# Altium schematic symbol library TPS65981.Schlib: 1 symbol
Pins are listed as number, name and electrical type; pins without a type are passive.

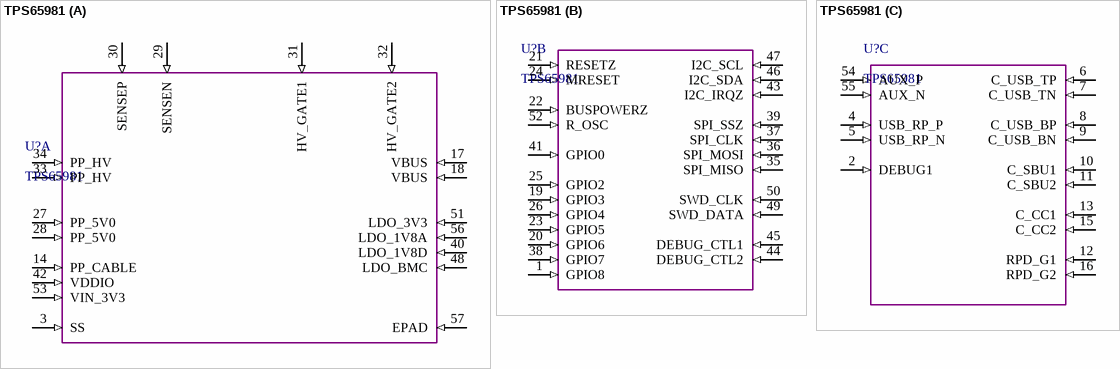
[diagram p0: symbol TPS65981]

## TPS65981
designator U?
part A pins: 3 SS (in), 14 PP_CABLE (in), 17 VBUS (in), 18 VBUS (in), 27 PP_5V0 (in), 28 PP_5V0 (in), 29 SENSEN (in), 30 SENSEP (in), 31 HV_GATE1 (in), 32 HV_GATE2 (in), 33 PP_HV (in), 34 PP_HV (in), 40 LDO_1V8D (in), 42 VDDIO (in), 48 LDO_BMC (in), 51 LDO_3V3 (in), 53 VIN_3V3 (in), 56 LDO_1V8A (in), 57 EPAD (in)
part B pins: 1 GPIO8 (in), 19 GPIO3 (in), 20 GPIO6 (in), 21 RESETZ (in), 22 BUSPOWERZ (in), 23 GPIO5 (in), 24 MRESET (in), 25 GPIO2 (in), 26 GPIO4 (in), 35 SPI_MISO (in), 36 SPI_MOSI (in), 37 SPI_CLK (in), 38 GPIO7 (in), 39 SPI_SSZ (in), 41 GPIO0 (in), 43 I2C_IRQZ (in), 44 DEBUG_CTL2 (in), 45 DEBUG_CTL1 (in), 46 I2C_SDA (in), 47 I2C_SCL (in), 49 SWD_DATA (in), 50 SWD_CLK (in), 52 R_OSC (in)
part C pins: 2 DEBUG1 (in), 4 USB_RP_P (in), 5 USB_RP_N (in), 6 C_USB_TP (in), 7 C_USB_TN (in), 8 C_USB_BP (in), 9 C_USB_BN (in), 10 C_SBU1 (in), 11 C_SBU2 (in), 12 RPD_G1 (in), 13 C_CC1 (in), 15 C_CC2 (in), 16 RPD_G2 (in), 54 AUX_P (in), 55 AUX_N (in)